# Altium schematic symbol library BK5811.SchLib: 7 symbols
Pins are listed as number, name and electrical type; pins without a type are passive.

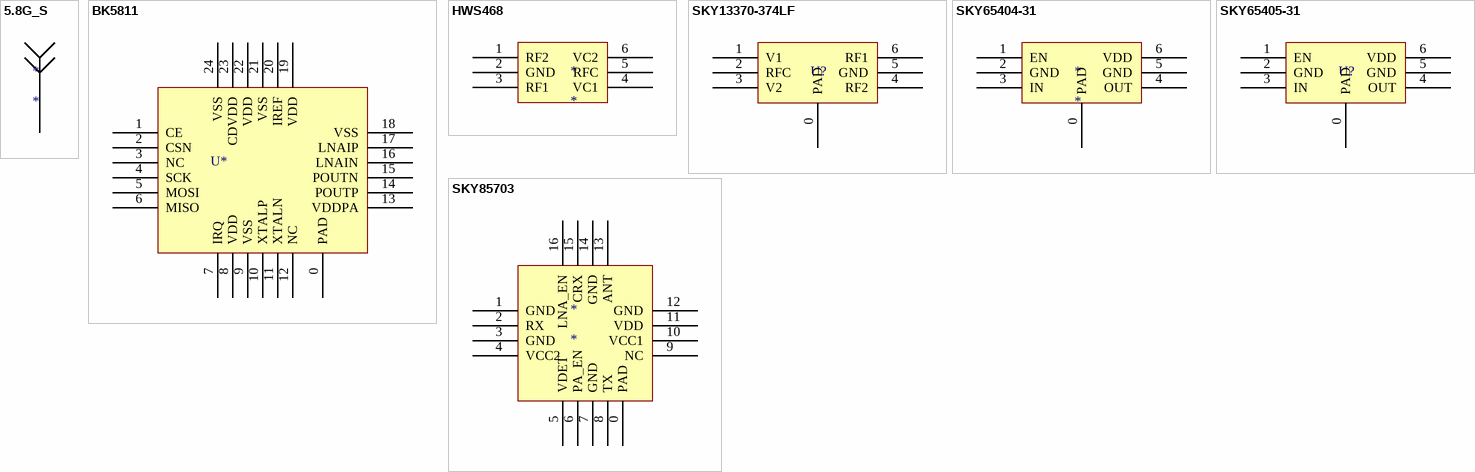
[diagram p0: symbols 5.8G_S to SKY85703]

## 5.8G_S
designator *
footprint 5.8G_S
footprint 5.8G_S_2
pins: 1

## BK5811
designator U*  (value not drawn)
footprint BK5811
pins: 0 PAD, 1 CE, 2 CSN, 3 NC, 4 SCK, 5 MOSI, 6 MISO, 7 IRQ, 8 VDD, 9 VSS, 10 XTALP, 11 XTALN, 12 NC, 13 VDDPA, 14 POUTP, 15 POUTN, 16 LNAIN, 17 LNAIP, 18 VSS, 19 VDD, 20 IREF, 21 VSS, 22 VDD, 23 CDVDD, 24 VSS

## HWS468
designator *
footprint LC-SC-70-6(SOT-363)
pins: 1 RF2, 2 GND, 3 RF1, 4 VC1, 5 RFC, 6 VC2

## SKY13370-374LF
designator U?  (value not drawn)
footprint SKY65404-31
pins: 0 PAD, 1 V1, 2 RFC, 3 V2, 4 RF2, 5 GND, 6 RF1

## SKY65404-31
designator *
footprint SKY65404-31
pins: 0 PAD, 1 EN, 2 GND, 3 IN, 4 OUT, 5 GND, 6 VDD

## SKY65405-31
designator U?  (value not drawn)
footprint SKY65404-31
pins: 0 PAD, 1 EN, 2 GND, 3 IN, 4 OUT, 5 GND, 6 VDD

## SKY85703
designator *
footprint QFN16-3x3
pins: 0 PAD, 1 GND, 2 RX, 3 GND, 4 VCC2, 5 VDET, 6 PA_EN, 7 GND, 8 TX, 9 NC, 10 VCC1, 11 VDD, 12 GND, 13 ANT, 14 GND, 15 CRX, 16 LNA_EN